# EAGLE library part CT100LW-FS6 (library CT100LW-FS6)
Board Mount Hall Effect / Magnetic Sensors Differential TMR High Sensitivity Magnetic 1D Linear Sensor ,SOT23 - 6 pin Package, F-Temp Source: Datasheet
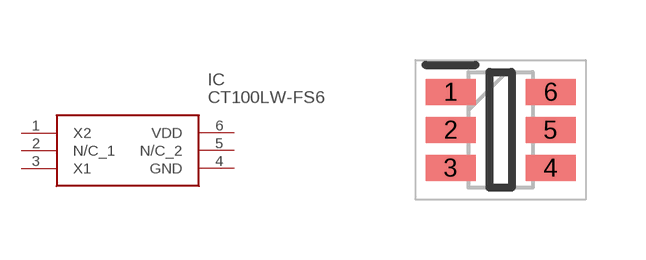
[diagram p0: symbol with the pads of SOT95P280X135-6N; footprint SOT95P280X135-6N]

Designator prefix IC

## CT100LW-FS6 (Description: Board Mount Hall Effect / Magnetic Sensors Differential TMR High Sensitivity Magnetic 1D Linear Sensor ,SOT23 - 6 pin Package, F-Temp; Height: 1.35mm; Manufacturer_Name: Allegro Microsystems; Manufacturer_Part_Number: CT100LW-FS6)  [SOT95P280X135-6N]
1  X2
2  N/C_1
3  X1
4  GND
5  N/C_2
6  VDD

## Footprint SOT95P280X135-6N (pad centres in mm)
CT100LW-IS6
smd 1.25 x 0.65: 1 -1.25,0.95; 2 -1.25,0; 3 -1.25,-0.95; 4 1.25,-0.95; 5 1.25,0; 6 1.25,0.95